# EAGLE library part ADUM5010 (library noah)
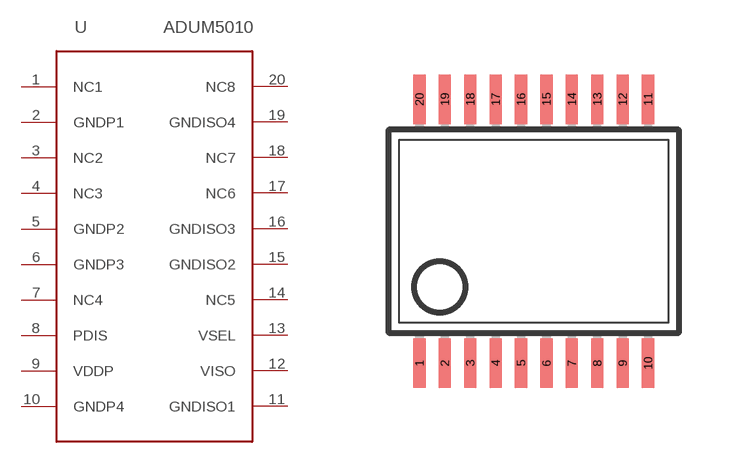
[diagram p2: symbol with the pads of SSOP20; footprint SSOP20]

Designator prefix -

## ADUM5010  [SSOP20]
1  NC1
2  GNDP1
3  NC2
4  NC3
5  GNDP2
6  GNDP3
7  NC4
8  PDIS
9  VDDP
10  GNDP4
11  GNDISO1
12  VISO
13  VSEL
14  NC5
15  GNDISO2
16  GNDISO3
17  NC6
18  NC7
19  GNDISO4
20  NC8

## Footprint SSOP20 (pad centres in mm)
Small Shrink Outline Package
smd 0.305 x 1.245: 1 -2.857,-3.302; 2 -2.222,-3.302; 3 -1.587,-3.302; 4 -0.952,-3.302; 5 -0.317,-3.302; 6 0.318,-3.302; 7 0.953,-3.302; 8 1.588,-3.302; 9 2.223,-3.302; 10 2.858,-3.302; 11 2.858,3.302; 12 2.223,3.302; 13 1.588,3.302; 14 0.953,3.302; 15 0.318,3.302; 16 -0.317,3.302; 17 -0.952,3.302; 18 -1.587,3.302; 19 -2.222,3.302; 20 -2.857,3.302